# Altium schematic symbol library DPI_LVDS.SchLib: 28 symbols
Pins are listed as number, name and electrical type; pins without a type are passive.

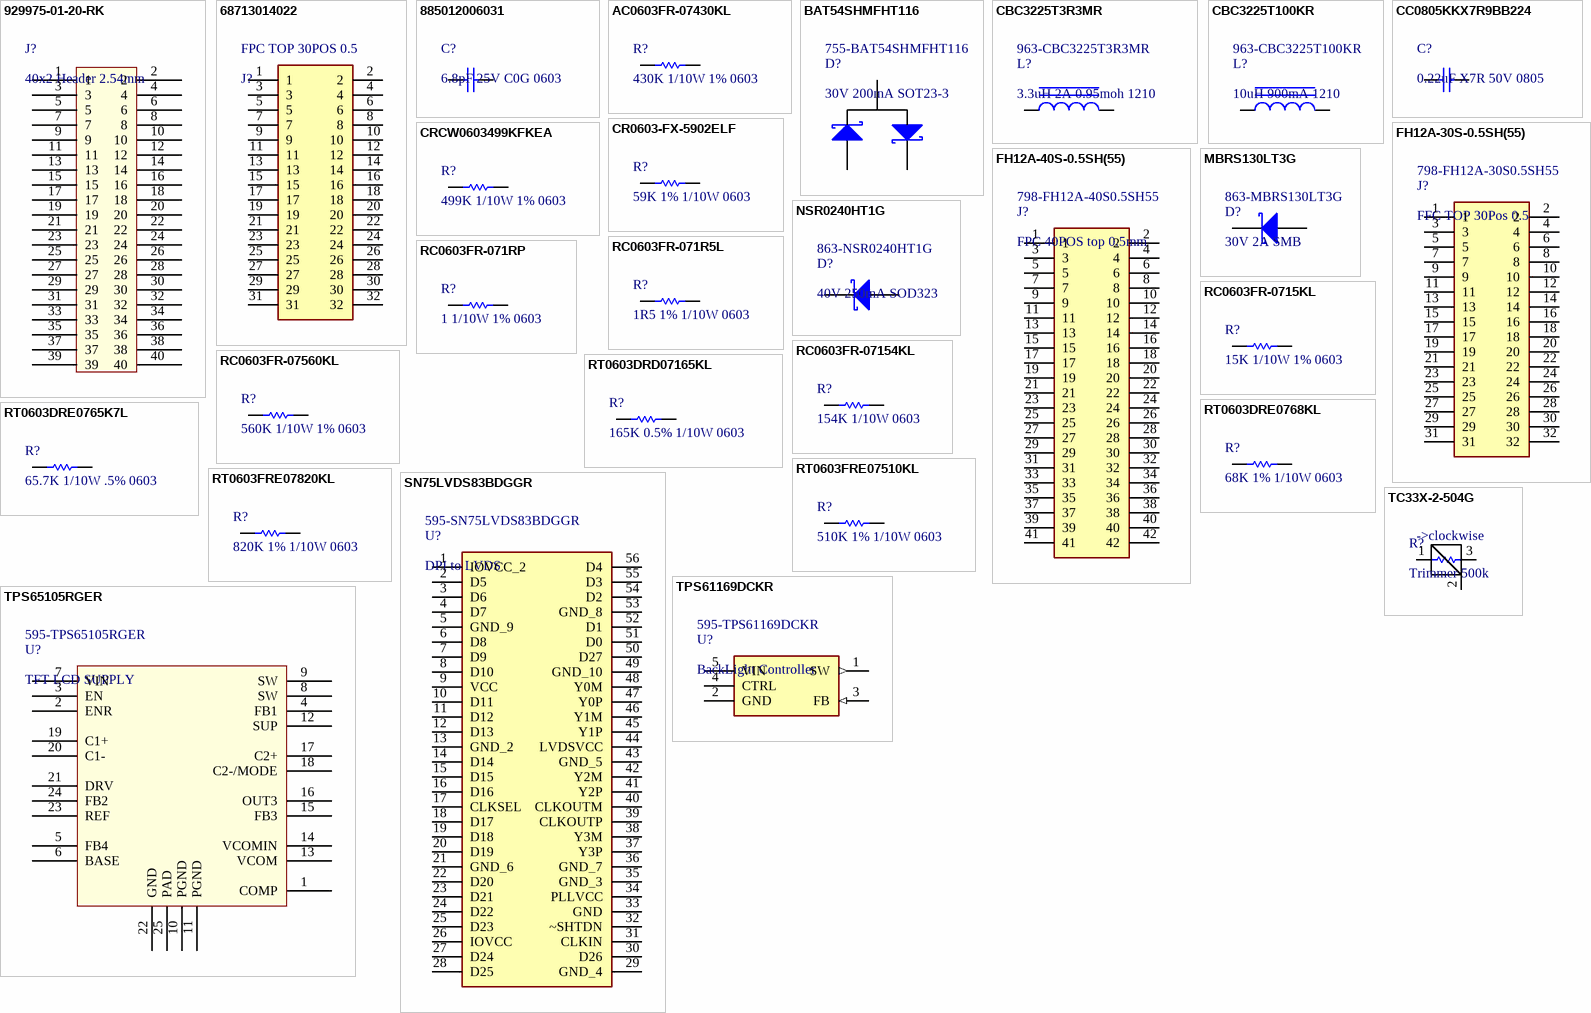
[diagram p0: symbols 929975-01-20-RK to TPS65105RGER]

## 929975-01-20-RK
designator J?, comment 40x2 Header 2.54mm
CONN RECEPT .100 DUAL STR 40POS; Manufacturer: 3M; Manufacturer Part Number: 929975-01-20-RK; Gender: Female; Number of Positions: 40; Connector Type: Receptacle; Current Rating: 1A; Pitch: 0.1inch; Contact Post Length: 3.18mm; Supplier 1: Mouser; RoHS: Yes; Stock 1: 240; Pricing 1: 1 = 2,70000, 10 = 2,59000, 50 = 2,27000, 100 = 2,16000, 1000 = 1,57000, 10000 = 1,46000 (USD); Mount: Through Hole; Contact Plating: Tin; Contact Material: Copper Alloy; Color: Black; Housing Color: Black; Housing Material: Polyester; Number of Rows: 2; Packaging: Bulk; Termination: Solder; Package Quantity: 1; Number of Contacts: 40; Contact Gender: Female; Length: 50.8mm; Height: 8.26mm; Row Spacing: 0.1inch; Width: 5.08mm; Lead Free: Lead Free; ComponentLink1URL: https://datasheet.ciiva.com/746/ts0815-746468.pdf?src-supplier=Digi-Key; ComponentLink1Description: https://datasheet.ciiva.com/746/ts0815-746468.pdf?src-supplier=Digi-Key; Supplier Part Number 1: 517-929975-01-20-RK
footprint Header 20x2 (2.54mm)
pins: 1, 2, 3, 4, 5, 6, 7, 8, 9, 10, 11, 12, 13, 14, 15, 16, 17, 18, 19, 20, 21, 22, 23, 24, 25, 26, 27, 28, 29, 30, 31, 32, 33, 34, 35, 36, 37, 38, 39, 40

## 68713014022
designator FPC TOP 30POS 0.5, comment J?
CONN FPC TOP 30POS 0.50MM R/A; Manufacturer: Wurth Electronics; Manufacturer Part Number: 68713014022; Actuator Material: Polymer; Current Rating: 500mA; Voltage Rating: 50V; Number of Positions: 30; Insulation Resistance: 100MR; Gender: Receptacle; Pitch: 0.5mm; RoHS: Yes; Mount: Surface Mount; Contact Plating: Tin; Contact Material: Bronze; Housing Material: Liquid Crystal Polymer; Min Operating Temperature: -25°C; Max Operating Temperature: 85°C; Number of Rows: 1; Packaging: Tape and Reel; Package Quantity: 1; Contact Location: Top; Termination: Solder; Number of Contacts: 30; Orientation: Straight; Length: 21.5mm; Width: 2.1mm; REACH SVHC: Unknown; Flammability Rating: UL94 V-0; ComponentLink1URL: https://datasheet.ciiva.com/25617/0900766b81113bff-25617822.pdf?src-supplier=RSComponents; ComponentLink1Description: https://datasheet.ciiva.com/25617/0900766b81113bff-25617822.pdf?src-supplier=RSComponents; ComponentLink2URL: https://datasheet.ciiva.com/670/6871xx14022-670559.pdf?src-supplier=Digi-Key; ComponentLink2Description: https://datasheet.ciiva.com/670/6871xx14022-670559.pdf?src-supplier=Digi-Key; ComponentLink3URL: https://datasheet.ciiva.com/670/6871xx14022-670557.pdf?src-supplier=Digi-Key; ComponentLink3Description: https://datasheet.ciiva.com/670/6871xx14022-670557.pdf?src-supplier=Digi-Key; ComponentLink4URL: https://datasheet.ciiva.com/670/6871xx14022-670558.pdf?src-supplier=Digi-Key; ComponentLink4Description: https://datasheet.ciiva.com/670/6871xx14022-670558.pdf?src-supplier=Digi-Key; ComponentLink5URL: https://datasheet.ciiva.com/14153/6871xx14022-eng-datasheet-14153918.pdf?src-supplier=Distrelec; ComponentLink5Description: https://datasheet.ciiva.com/14153/6871xx14022-eng-datasheet-14153918.pdf?src-supplier=Distrelec; ComponentLink6URL: https://datasheet.ciiva.com/29317/709128-da-01-en-smd-zif-stecker-90grad-kontakte-oben-30-29317879.pdf?src-supplier=Conrad; ComponentLink6Description: https://datasheet.ciiva.com/29317/709128-da-01-en-smd-zif-stecker-90grad-kontakte-oben-30-29317879.pdf?src-supplier=Conrad
footprint 68713014022
pins: 1, 2, 3, 4, 5, 6, 7, 8, 9, 10, 11, 12, 13, 14, 15, 16, 17, 18, 19, 20, 21, 22, 23, 24, 25, 26, 27, 28, 29, 30, 31, 32

## 885012006031
designator C?, comment 6.8pF 25V C0G 0603
CAP CER 6.8PF 25V C0G/NP0 0603; Manufacturer: Wurth Electronics; Manufacturer Part Number: 885012006031; Supplier 1: Mouser; RoHS: Yes; Stock 1: 13572; Pricing 1: 1 = 0,10000, 10 = 0,03200, 50 = 0,03200, 100 = 0,02900, 1000 = 0,02600, 10000 = 0,02200 (USD); Mount: Surface Mount; Case/Package: 0603; Case Code (Metric): 1608; Case Code (Imperial): 0603; Min Operating Temperature: -55°C; Max Operating Temperature: 125°C; Packaging: Tape and Reel; Capacitance: 6.8pF; Voltage Rating: 25V; Length: 0.063inch; Width: 0.031inch; Thickness: 0.034inch; ComponentLink1URL: http://www.farnell.com/datasheets/2546592.pdf?src-supplier=Farnell; ComponentLink1Description: http://www.farnell.com/datasheets/2546592.pdf?src-supplier=Farnell; ComponentLink2URL: https://katalog.we-online.de/pbs/datasheet/885012006031.pdf?src-supplier=Digi-Key; ComponentLink2Description: https://katalog.we-online.de/pbs/datasheet/885012006031.pdf?src-supplier=Digi-Key; Supplier Part Number 1: 710-885012006031
footprint C 0603/1608
pins: 1, 2

## AC0603FR-07430KL
designator R?, comment 430K 1/10W 1% 0603
Res Thick Film 0603 430K Ohm 1% 0.1W(1/10W) ±100ppm/C Epoxy Pad SMD Automotive T/R; Manufacturer: Yageo; Manufacturer Part Number: AC0603FR-07430KL; Power Rating: 100mW; Resistance: 430kR; Voltage Rating: 50V; Temperature Coefficient: 100ppm/°C; Working Voltage: 75V; Supplier 1: Mouser; RoHS: Yes; Stock 1: 55868; Pricing 1: 1 = 0,10000, 10 = 0,02200, 50 = 0,02200, 100 = 0,00800, 1000 = 0,00600, 10000 = 0,00400 (USD); Case/Package: 0603; Weight: 7.1E-05oz; Case Code (Imperial): 0603; Case Code (Metric): 1608; Min Operating Temperature: -55°C; Max Operating Temperature: 155°C; Packaging: Tape and Reel; Tolerance: 1%; Composition: Thick Film; Number of Terminations: 2; Termination: SMD/SMT; Max Power Dissipation: 100mW; Features: Moisture Resistant; Length: 0.063inch; Height: 0.022inch; Width: 0.031inch; Lead Free: Lead Free; ComponentLink1URL: https://datasheet.ciiva.com/12576/pyu-ac-51-rohs-l-2-12576361.pdf?src-supplier=Mouser; ComponentLink1Description: https://datasheet.ciiva.com/12576/pyu-ac-51-rohs-l-2-12576361.pdf?src-supplier=Mouser; Supplier Part Number 1: 603-AC0603FR-07430KL
footprint R 0603/1608
pins: 1, 2

## BAT54SHMFHT116
designator D?, comment 30V 200mA SOT23-3  Supplier Part Number 1: 755-BAT54SHMFHT116
AUTOMOTIVE SCHOTTKY BARRIER DIOD; Manufacturer: Rohm; Manufacturer Part Number: BAT54SHMFHT116; Supplier 1: Mouser; RoHS: No; Stock 1: 121849; Pricing 1: 1 = 0,16000, 10 = 0,14200, 50 = 0,14200, 100 = 0,05000, 1000 = 0,03400, 10000 = 0,02600 (USD); ComponentLink1URL: http://www.farnell.com/datasheets/2190045.pdf?src-supplier=Farnell; ComponentLink1Description: http://www.farnell.com/datasheets/2190045.pdf?src-supplier=Farnell; ComponentLink2URL: http://rohmfs.rohm.com/en/techdata_basic/diode/taping/Taping_SSD3M_T116-e.pdf?src-supplier=Digi-Key; ComponentLink2Description: http://rohmfs.rohm.com/en/techdata_basic/diode/taping/Taping_SSD3M_T116-e.pdf?src-supplier=Digi-Key; ComponentLink3URL: http://rohmfs.rohm.com/en/products/databook/datasheet/discrete/diode/schottky_barrier/bat54shmfh-e.pdf?src-supplier=Digi-Key; ComponentLink3Description: http://rohmfs.rohm.com/en/products/databook/datasheet/discrete/diode/schottky_barrier/bat54shmfh-e.pdf?src-supplier=Digi-Key
footprint SOT-23-3 (SOT23, 3-Leads, Body 2.92x1.3mm, Pitch 0.95mm)
pins: 1 A, 2 K, 3 A/K

## CBC3225T3R3MR
designator L?, comment 3.3uH 2A 0.95moh 1210  Supplier Part Number 1: 963-CBC3225T3R3MR
FIXED IND 3.3UH 1.04A 123.5 MOHM; Manufacturer: Taiyo Yuden; Manufacturer Part Number: CBC3225T3R3MR; Core Material: Ferrite; Shielding: Unshielded; Tolerance: 20%; DC Resistance (DCR): 123.5mR; Self Resonant Frequency: 160MHz; Test Frequency: 100kHz; Supplier 1: Mouser; RoHS: Yes; Stock 1: 2798; Pricing 1: 1 = 0,32000, 10 = 0,25600, 50 = 0,25600, 100 = 0,19200, 1000 = 0,10900, 10000 = 0,09400 (USD); Mount: Surface Mount; Case/Package: 1210; Weight: 0.000564oz; Case Code (Metric): 3225; Case Code (Imperial): 1210; Min Operating Temperature: -40°C; Max Operating Temperature: 105°C; Inductance: 3.3uH; Packaging: Tape and Reel; Max DC Current: 2A; Package Quantity: 1000; Current Rating: 1.04A; Saturation Current: 2A; Termination: SMD/SMT; Composition: Wirewound; Length: 3.2mm; Height: 2.5mm; Width: 0.098inch; Depth: 2.7mm; Radiation Hardening: No; Lead Free: Lead Free; Halogen Free: Halogen Free; ComponentLink1URL: https://datasheet.ciiva.com/8503/cbc3225t3r3mr-ss-8503651.pdf?src-supplier=Avnet; ComponentLink1Description: https://datasheet.ciiva.com/8503/cbc3225t3r3mr-ss-8503651.pdf?src-supplier=Avnet; ComponentLink2URL: https://datasheet.ciiva.com/25607/0900766b810b3b0a-25607789.pdf?src-supplier=RSComponents; ComponentLink2Description: https://datasheet.ciiva.com/25607/0900766b810b3b0a-25607789.pdf?src-supplier=RSComponents
footprint L 1210/3225
pins: 1, 2

## CBC3225T100KR
designator L?, comment 10uH 900mA 1210  Supplier Part Number 1: 963-CBC3225T100KR
Fixed Inductors 1210 10uH 172.9mOhms +/-10% 900mA HiCur; Manufacturer: Taiyo Yuden; Manufacturer Part Number: CBC3225T100KR; Core Material: Ferrite; Self Resonant Frequency: 23MHz; Tolerance: 10%; DC Resistance (DCR): 133mR; Shielding: Unshielded; Test Frequency: 100kHz; Supplier 1: Mouser; RoHS: Yes; Stock 1: 98328; Pricing 1: 1 = 0,25000, 10 = 0,22100, 50 = 0,22100, 100 = 0,15200, 1000 = 0,10200, 10000 = 0,07700 (USD); Mount: Surface Mount; Case/Package: 1210; Case Code (Metric): 3225; Case Code (Imperial): 1210; Min Operating Temperature: -40°C; Max Operating Temperature: 105°C; Inductance: 10uH; Packaging: Tape and Reel; Max DC Current: 900mA; Package Quantity: 1000; Current Rating: 900mA; Saturation Current: 900mA; Termination: SMD/SMT; Composition: Wirewound; Inductance Tolerance: 10%; DC Current: 900mA; Military Standard: Not; Length: 0.126inch; Height: 2.5mm; Width: 2.5mm; Height - Seated (Max): 0.106inch; Depth: 2.7mm; Radiation Hardening: No; Lead Free: Lead Free; REACH SVHC: Unknown; Halogen Free: Halogen Free; ComponentLink1URL: https://datasheet.ciiva.com/26871/getdatasheetpartid-637483-26871170.pdf?src-supplier=Verical; ComponentLink1Description: https://datasheet.ciiva.com/26871/getdatasheetpartid-637483-26871170.pdf?src-supplier=Verical; ComponentLink2URL: https://datasheet.ciiva.com/6701/cbc3225t100kr-ss-6701092.pdf?src-supplier=Digi-Key; ComponentLink2Description: https://datasheet.ciiva.com/6701/cbc3225t100kr-ss-6701092.pdf?src-supplier=Digi-Key
footprint L 1210/3225
pins: 1, 2

## CC0805KKX7R9BB224
designator C?, comment 0.22uF X7R 50V 0805
Multilayer Ceramic Capacitors MLCC - SMD/SMT 220nF 50V X7R 10%; Manufacturer: Yageo; Manufacturer Part Number: CC0805KKX7R9BB224; Supplier 1: Mouser; RoHS: Yes; Stock 1: 44886; Pricing 1: 1 = 0,20000, 10 = 0,10300, 50 = 0,10300, 100 = 0,05200, 1000 = 0,04400, 10000 = 0,03100 (USD); Mount: Surface Mount; Case/Package: 0805; Weight: 0.000194oz; Case Code (Imperial): 0805; Case Code (Metric): 2012; Min Operating Temperature: -55°C; Max Operating Temperature: 125°C; Capacitance: 220nF; Tolerance: 10%; Dielectric: X7R; Packaging: Tape and Reel; Voltage Rating: 50V; Voltage Rating (DC): 50V; Termination: SMD/SMT; Composition: Ceramic; Length: 2mm; Height: 1.25mm; Width: 0.049inch; Thickness: 0.057inch; Depth: 1.25mm; Radiation Hardening: No; Lead Free: Lead Free; Halogen Free: Halogen Free; ComponentLink1URL: https://datasheet.ciiva.com/26862/getdatasheetpartid-403679-26862968.pdf?src-supplier=Verical; ComponentLink1Description: https://datasheet.ciiva.com/26862/getdatasheetpartid-403679-26862968.pdf?src-supplier=Verical; ComponentLink2URL: https://datasheet.ciiva.com/15375/yageo-486313-494411-15375807.pdf?src-supplier=Mouser; ComponentLink2Description: https://datasheet.ciiva.com/15375/yageo-486313-494411-15375807.pdf?src-supplier=Mouser; Supplier Part Number 1: 603-CC805KKX7R9BB224
footprint C 0805/2012
pins: 1, 2

## CR0603-FX-5902ELF
designator R?, comment 59K 1% 1/10W 0603
Res Thick Film 0603 59K Ohm 1% 1/10W ±100ppm/C Molded SMD SMD Paper Tape on Plastic Reel; Manufacturer 1: Bourns; Manufacturer Part Number 1: CR0603-FX-5902ELF; Resistance: 59kR; Temperature Coefficient: 100ppm/°C; Power Rating: 100mW; Voltage Rating: 50V; Supplier 1: Mouser; Stock 1: 16309; Pricing 1: 1=0,10000, 10=0,03100, 50=0,03100, 100=0,01700, 1000=0,01000, 10000=0,00800 (USD); RoHS: Yes; Mount: Surface Mount; Case/Package: 0603; Contact Plating: Tin; Case Code (Imperial): 0603; Case Code (Metric): 1608; Min Operating Temperature: -55°C; Max Operating Temperature: 155°C; Tolerance: 1%; Composition: Thick Film; Packaging: Tape and Reel; Package Quantity: 5000; Termination: SMD/SMT; Number of Terminations: 2; Military Standard: Not; Max Power Dissipation: 100mW; Features: Moisture Resistant; Length: 1.6mm; Height: 0.022inch; Width: 0.8mm; Depth: 0.8mm; Thickness: 457um; Radiation Hardening: No; ComponentLink1URL: https://datasheet.ciiva.com/5570/chpreztr-5570920.pdf?src-supplier=Mouser; ComponentLink1Description: https://datasheet.ciiva.com/5570/chpreztr-5570920.pdf?src-supplier=Mouser; ComponentLink2URL: https://datasheet.ciiva.com/14986/chpreztr-14986428.pdf?src-supplier=Digi-Key; ComponentLink2Description: https://datasheet.ciiva.com/14986/chpreztr-14986428.pdf?src-supplier=Digi-Key; ComponentLink3URL: https://datasheet.ciiva.com/16940/chpreztr-16940063.pdf?src-supplier=Avnet+Europe; ComponentLink3Description: https://datasheet.ciiva.com/16940/chpreztr-16940063.pdf?src-supplier=Avnet+Europe; Supplier Part Number 1: 652-CR0603FX-5902ELF
footprint R 0603/1608
pins: 1, 2

## CRCW0603499KFKEA
designator R?, comment 499K 1/10W 1% 0603
RES SMD 499K OHM 1% 1/10W 0603; Manufacturer: Vishay; Manufacturer Part Number: CRCW0603499KFKEA; Resistance: 499kR; Power Rating: 100mW; Temperature Coefficient: 100ppm/°C; Voltage Rating: 75V; Supplier 1: Mouser; RoHS: Yes; Stock 1: 2400; Pricing 1: 1 = 0,10000, 10 = 0,04000, 50 = 0,04000, 100 = 0,02800, 1000 = 0,00600, 10000 = 0,00400 (USD); Mount: Surface Mount; Case/Package: 0603; Number of Pins: 2; Weight: 7.1E-05oz; Contact Plating: Tin; Case Code (Imperial): 0603; Case Code (Metric): 1608; Min Operating Temperature: -55°C; Max Operating Temperature: 155°C; Tolerance: 1%; Termination: SMD/SMT; Composition: Thick Film; Packaging: Tape and Reel; Package Quantity: 10; Number of Terminations: 2; Military Standard: Not; Max Power Dissipation: 100mW; Voltage Rating (DC): 75V; Working Voltage: 75V; Features: Automotive AEC-Q200; Length: 1.55mm; Height: 0.45mm; Width: 0.85mm; Depth: 0.85mm; Radiation Hardening: No; Lead Free: Lead Free; REACH SVHC: Unknown; ComponentLink1URL: https://datasheet.ciiva.com/11811/0900766b80d98afc-11811204.pdf?src-supplier=RSComponents; ComponentLink1Description: https://datasheet.ciiva.com/11811/0900766b80d98afc-11811204.pdf?src-supplier=RSComponents; ComponentLink2URL: https://datasheet.ciiva.com/7168/1635184-7168517.pdf?src-supplier=Newark; ComponentLink2Description: https://datasheet.ciiva.com/7168/1635184-7168517.pdf?src-supplier=Newark; ComponentLink3URL: https://datasheet.ciiva.com/2465/dcrcwe3-2465610.pdf?src-supplier=Digi-Key; ComponentLink3Description: https://datasheet.ciiva.com/2465/dcrcwe3-2465610.pdf?src-supplier=Digi-Key; ComponentLink4URL: https://datasheet.ciiva.com/7792/125364-7792298.pdf?src-supplier=Element14; ComponentLink4Description: https://datasheet.ciiva.com/7792/125364-7792298.pdf?src-supplier=Element14; ComponentLink5URL: https://datasheet.ciiva.com/16200/dcrcwe3-16200202.pdf?src-supplier=Future+Electronics; ComponentLink5Description: https://datasheet.ciiva.com/16200/dcrcwe3-16200202.pdf?src-supplier=Future+Electronics; ComponentLink6URL: https://datasheet.ciiva.com/16784/70201119-16784775.pdf?src-supplier=Allied+Electronics; ComponentLink6Description: https://datasheet.ciiva.com/16784/70201119-16784775.pdf?src-supplier=Allied+Electronics; ComponentLink7URL: https://datasheet.ciiva.com/5551/dcrcwe3-109170-5551960.pdf?src-supplier=Mouser; ComponentLink7Description: https://datasheet.ciiva.com/5551/dcrcwe3-109170-5551960.pdf?src-supplier=Mouser; ComponentLink8URL: https://datasheet.ciiva.com/2465/dcrcwe3-2465609.pdf?src-supplier=Digi-Key; ComponentLink8Description: https://datasheet.ciiva.com/2465/dcrcwe3-2465609.pdf?src-supplier=Digi-Key; ComponentLink9URL: https://datasheet.ciiva.com/2465/dcrcwe3-2465611.pdf?src-supplier=Digi-Key; ComponentLink9Description: https://datasheet.ciiva.com/2465/dcrcwe3-2465611.pdf?src-supplier=Digi-Key; ComponentLink10URL: https://datasheet.ciiva.com/3257/dcrcwe3-3257647.pdf?src-supplier=Avnet; ComponentLink10Description: https://datasheet.ciiva.com/3257/dcrcwe3-3257647.pdf?src-supplier=Avnet; Supplier Part Number 1: 71-CRCW0603-499K-E3
footprint R 0603/1608
pins: 1, 2

## FH12A-30S-0.5SH(55)
designator J?, comment FFC TOP 30Pos 0.5  Supplier Part Number 1: 798-FH12A-30S0.5SH55
CONN FFC TOP 30POS 0.50MM R/A; Manufacturer: Hirose; Manufacturer Part Number: FH12A-30S-0.5SH(55); Actuator Material: Polyphenylene; Current Rating: 500mA; Voltage Rating: 50V; Gender: Female; Contact Resistance: 50mR; Mating Cycles: 20; Max Current Rating: 400mA; Number of Positions: 30; Insulation Resistance: 500MR; Wire/Cable Type: Straight; Pitch: 0.5mm; Supplier 1: Mouser; RoHS: Yes; Stock 1: 1995; Pricing 1: 1 = 2,20000, 10 = 2,00000, 50 = 1,80000, 100 = 1,71000, 1000 = 1,23000, 10000 = 0,96300 (USD); Mount: Surface Mount; Contact Material: Bronze; Contact Plating: Gold; Color: Beige; Material: Polyamide; Housing Color: Beige; Housing Material: Polyamide; Min Operating Temperature: -40°C; Max Operating Temperature: 70°C; Package Quantity: 1; Packaging: Tape and Reel; Number of Rows: 1; Voltage Rating (AC): 50V; Termination: Solder; Contact Location: Top; Number of Contacts: 30; Max Voltage Rating (AC): 50V; Orientation: Right Angle; Length: 19.5mm; Lead Pitch: 0.5mm; Width: 19.1mm; Depth: 6.2mm; Radiation Hardening: No; REACH SVHC: No SVHC; Lead Free: Lead Free; Flammability Rating: UL94 V-0; ComponentLink1URL: https://datasheet.ciiva.com/11745/0900766b80eb81d1-11745008.pdf?src-supplier=RSComponents; ComponentLink1Description: https://datasheet.ciiva.com/11745/0900766b80eb81d1-11745008.pdf?src-supplier=RSComponents; ComponentLink2URL: https://datasheet.ciiva.com/15176/getdatasheetpartid-447851-15176862.pdf?src-supplier=Verical; ComponentLink2Description: https://datasheet.ciiva.com/15176/getdatasheetpartid-447851-15176862.pdf?src-supplier=Verical; ComponentLink3URL: https://datasheet.ciiva.com/22697/58809-22697097.pdf?src-supplier=Element14; ComponentLink3Description: https://datasheet.ciiva.com/22697/58809-22697097.pdf?src-supplier=Element14; ComponentLink4URL: https://datasheet.ciiva.com/22630/58809-22630397.pdf?src-supplier=Farnell; ComponentLink4Description: https://datasheet.ciiva.com/22630/58809-22630397.pdf?src-supplier=Farnell
footprint FH12A-30S0.5SH55
pins: 1, 2, 3, 4, 5, 6, 7, 8, 9, 10, 11, 12, 13, 14, 15, 16, 17, 18, 19, 20, 21, 22, 23, 24, 25, 26, 27, 28, 29, 30, 31, 32

## FH12A-40S-0.5SH(55)
designator J?, comment FPC 40POS top 0.5mm  Supplier Part Number 1: 798-FH12A-40S0.5SH55
CONN FFC TOP 40POS 0.50MM R/A; Manufacturer: Hirose; Manufacturer Part Number: FH12A-40S-0.5SH(55); Actuator Material: Polyphenylene; Number of Contacts: 40; Voltage Rating: 50V; Current Rating: 500mA; Wire/Cable Type: Straight; Gender: Female; Contact Resistance: 50mR; Max Current Rating: 400mA; Insulation Resistance: 500MR; Mating Cycles: 20; Supplier 1: Mouser; RoHS: Yes; Stock 1: 13223; Pricing 1: 1 = 2,56000, 10 = 2,15000, 50 = 2,15000, 100 = 2,05000, 1000 = 1,55000, 10000 = 1,24000 (USD); Mount: Surface Mount; Contact Material: Bronze; Contact Plating: Gold; Housing Material: Polyamide; Housing Color: Beige; Material: Polyamide; Color: Beige; Min Operating Temperature: -40°C; Max Operating Temperature: 70°C; Termination: Solder; Packaging: Tape and Reel; Number of Positions: 40; Package Quantity: 2000; Number of Rows: 1; Orientation: Right Angle; Contact Location: Top; Max Voltage Rating (AC): 50V; Voltage Rating (AC): 50V; Length: 24.5mm; Pitch: 0.5mm; Depth: 6.2mm; Width: 24.1mm; Lead Pitch: 0.5mm; Radiation Hardening: No; Lead Free: Lead Free; Flammability Rating: UL94 V-0; REACH SVHC: No SVHC; ComponentLink1URL: https://datasheet.ciiva.com/14667/0900766b80806912-14667338.pdf?src-supplier=RSComponents; ComponentLink1Description: https://datasheet.ciiva.com/14667/0900766b80806912-14667338.pdf?src-supplier=RSComponents; ComponentLink2URL: https://datasheet.ciiva.com/11745/0900766b80d985fc-11745193.pdf?src-supplier=RSComponents; ComponentLink2Description: https://datasheet.ciiva.com/11745/0900766b80d985fc-11745193.pdf?src-supplier=RSComponents; ComponentLink3URL: https://datasheet.ciiva.com/15176/getdatasheetpartid-432540-15176844.pdf?src-supplier=Verical; ComponentLink3Description: https://datasheet.ciiva.com/15176/getdatasheetpartid-432540-15176844.pdf?src-supplier=Verical
footprint FH12A40S05SH
pins: 1, 2, 3, 4, 5, 6, 7, 8, 9, 10, 11, 12, 13, 14, 15, 16, 17, 18, 19, 20, 21, 22, 23, 24, 25, 26, 27, 28, 29, 30, 31, 32, 33, 34, 35, 36, 37, 38, 39, 40, 41, 42

## MBRS130LT3G
designator D?, comment 30V 2A SMB  Supplier Part Number 1: 863-MBRS130LT3G
DIODE SCHOTTKY 30V 2A SMB; Manufacturer: ON Semiconductor; Manufacturer Part Number: MBRS130LT3G; Max Surge Current: 40A; Forward Voltage: 395mV; Peak Reverse Current: 1mA; Element Configuration: Single; Polarity: Standard; Current Rating: 1A; Supplier 1: Mouser; RoHS: Yes; Stock 1: 81498; Pricing 1: 1 = 0,37000, 10 = 0,25800, 50 = 0,25800, 100 = 0,11900, 1000 = 0,09100, 10000 = 0,07100 (USD); Case/Package: SMB; Number of Pins: 2; Contact Plating: Tin; Min Operating Temperature: -65°C; Max Operating Temperature: 125°C; Forward Current: 2A; Package Quantity: 1; Packaging: Tape and Reel; Average Rectified Current: 2A; Max Reverse Leakage Current: 1mA; Max Repetitive Reverse Voltage (Vrrm): 30V; Max Forward Surge Current (Ifsm): 40A; Termination: SMD/SMT; Peak Non-Repetitive Surge Current: 40A; Voltage Rating (DC): 30V; Output Current: 1A; Max Reverse Voltage (DC): 30V; Length: 0.181inch; Height: 0.09inch; Width: 0.156inch; Radiation Hardening: No; REACH SVHC: No SVHC; Lead Free: Lead Free; Halogen Free: Halogen Free; ComponentLink1URL: https://datasheet.ciiva.com/5763/mbrs130lt3-d-5763008.pdf?src-supplier=Farnell; ComponentLink1Description: https://datasheet.ciiva.com/5763/mbrs130lt3-d-5763008.pdf?src-supplier=Farnell; ComponentLink2URL: https://datasheet.ciiva.com/915/mbrs130lt3-d-915698.pdf?src-supplier=Digi-Key; ComponentLink2Description: https://datasheet.ciiva.com/915/mbrs130lt3-d-915698.pdf?src-supplier=Digi-Key; ComponentLink3URL: https://datasheet.ciiva.com/27050/865899-27050530.pdf?src-supplier=Jameco; ComponentLink3Description: https://datasheet.ciiva.com/27050/865899-27050530.pdf?src-supplier=Jameco; ComponentLink4URL: https://datasheet.ciiva.com/22659/1708275-22659062.pdf?src-supplier=Element14; ComponentLink4Description: https://datasheet.ciiva.com/22659/1708275-22659062.pdf?src-supplier=Element14; ComponentLink5URL: https://datasheet.ciiva.com/915/mbrs130lt3-d-915699.pdf?src-supplier=Digi-Key; ComponentLink5Description: https://datasheet.ciiva.com/915/mbrs130lt3-d-915699.pdf?src-supplier=Digi-Key; ComponentLink6URL: https://datasheet.ciiva.com/915/mbrs130lt3-d-915700.pdf?src-supplier=Digi-Key; ComponentLink6Description: https://datasheet.ciiva.com/915/mbrs130lt3-d-915700.pdf?src-supplier=Digi-Key; ComponentLink7URL: https://datasheet.ciiva.com/7962/mbrs130lt3-d-7962810.pdf?src-supplier=Element14; ComponentLink7Description: https://datasheet.ciiva.com/7962/mbrs130lt3-d-7962810.pdf?src-supplier=Element14; ComponentLink8URL: https://datasheet.ciiva.com/25950/mbrs130lt3-d-25950250.pdf?src-supplier=Avnet+Europe; ComponentLink8Description: https://datasheet.ciiva.com/25950/mbrs130lt3-d-25950250.pdf?src-supplier=Avnet+Europe; ComponentLink9URL: https://datasheet.ciiva.com/16363/mbrs130lt3-d-16363355.pdf?src-supplier=Future+Electronics; ComponentLink9Description: https://datasheet.ciiva.com/16363/mbrs130lt3-d-16363355.pdf?src-supplier=Future+Electronics
footprint SOD DO-214AA-2 (SMB)
pins: 1 K, 2 A

## NSR0240HT1G
designator D?, comment 40V 250mA SOD323  Supplier Part Number 1: 863-NSR0240HT1G
DIODE SCHOTTKY 40V 250MA SOD323; Manufacturer: ON Semiconductor; Manufacturer Part Number: NSR0240HT1G; Max Surge Current: 1A; Recovery Time: 3ns; Peak Reverse Current: 10uA; Forward Voltage: 710mV; Power Dissipation: 270mW; Element Configuration: Single; Supplier 1: Mouser; RoHS: Yes; Stock 1: 30582; Pricing 1: 1 = 0,23000, 10 = 0,15400, 50 = 0,15400, 100 = 0,06500, 1000 = 0,04400, 10000 = 0,03000 (USD); Case/Package: SOD-323-2; Number of Pins: 2; Contact Plating: Tin; Min Operating Temperature: -55°C; Max Operating Temperature: 150°C; Package Quantity: 1; Forward Current: 250mA; Packaging: Tape and Reel; Max Reverse Leakage Current: 10uA; Average Rectified Current: 250mA; Reverse Recovery Time: 3ns; Max Repetitive Reverse Voltage (Vrrm): 40V; Peak Non-Repetitive Surge Current: 1A; Max Forward Surge Current (Ifsm): 1A; Max Reverse Voltage (DC): 40V; Length: 1.8mm; Height: 1mm; Width: 1.35mm; Radiation Hardening: No; REACH SVHC: No SVHC; Lead Free: Lead Free; ComponentLink1URL: https://datasheet.ciiva.com/4714/nsr0240h-d-113658-4714368.pdf?src-supplier=Mouser; ComponentLink1Description: https://datasheet.ciiva.com/4714/nsr0240h-d-113658-4714368.pdf?src-supplier=Mouser; ComponentLink2URL: https://datasheet.ciiva.com/8293/nsr0240h-d-8293840.pdf?src-supplier=Avnet; ComponentLink2Description: https://datasheet.ciiva.com/8293/nsr0240h-d-8293840.pdf?src-supplier=Avnet; ComponentLink3URL: https://datasheet.ciiva.com/25949/nsr0240h-d-25949637.pdf?src-supplier=Avnet+Europe; ComponentLink3Description: https://datasheet.ciiva.com/25949/nsr0240h-d-25949637.pdf?src-supplier=Avnet+Europe; ComponentLink4URL: https://datasheet.ciiva.com/915/nsr0240h-d-915416.pdf?src-supplier=Digi-Key; ComponentLink4Description: https://datasheet.ciiva.com/915/nsr0240h-d-915416.pdf?src-supplier=Digi-Key; ComponentLink5URL: https://datasheet.ciiva.com/915/nsr0240h-d-915417.pdf?src-supplier=Digi-Key; ComponentLink5Description: https://datasheet.ciiva.com/915/nsr0240h-d-915417.pdf?src-supplier=Digi-Key; ComponentLink6URL: https://datasheet.ciiva.com/16396/nsr0240h-d-16396521.pdf?src-supplier=Future+Electronics; ComponentLink6Description: https://datasheet.ciiva.com/16396/nsr0240h-d-16396521.pdf?src-supplier=Future+Electronics; ComponentLink7URL: https://datasheet.ciiva.com/915/nsr0240h-d-915418.pdf?src-supplier=Digi-Key; ComponentLink7Description: https://datasheet.ciiva.com/915/nsr0240h-d-915418.pdf?src-supplier=Digi-Key; ComponentLink8URL: https://datasheet.ciiva.com/7963/nsr0240h-d-7963165.pdf?src-supplier=Element14; ComponentLink8Description: https://datasheet.ciiva.com/7963/nsr0240h-d-7963165.pdf?src-supplier=Element14
footprint SOD-323
pins: 1 K, 2 A

## RC0603FR-071R5L
designator R?, comment 1R5 1% 1/10W 0603
RESISTOR, 0603 1R5 1%, FULL REEL; Manufacturer 1: Yageo; Manufacturer Part Number 1: RC0603FR-071R5L; Resistance: 1.5R; Power Rating: 100mW; Voltage Rating: 50V; Temperature Coefficient: 200ppm/°C; Supplier 1: Mouser; Stock 1: 50492; Pricing 1: 1=0,15000, 10=0,03600, 50=0,03600, 100=0,01200, 1000=0,00900, 5000=0,00600, 10000=0,00600, 25000=0,00500, 50000=0,00400 (USD); RoHS: Yes; Case/Package: 0603; Number of Pins: 2; Case Code (Imperial): 0603; Case Code (Metric): 1608; Min Operating Temperature: -55°C; Max Operating Temperature: 155°C; Tolerance: 1%; Packaging: Tape and Reel; Voltage Rating (DC): 50V; Composition: Thick Film; Number of Terminations: 2; Termination: SMD/SMT; Max Power Dissipation: 100mW; Features: Moisture Resistant; Length: 0.063inch; Height: 0.022inch; Width: 0.031inch; Depth: 0.8mm; REACH SVHC: No SVHC; Lead Free: Lead Free; ComponentLink1URL: https://datasheet.ciiva.com/11809/0900766b80f96399-11809241.pdf?src-supplier=RSComponents; ComponentLink1Description: https://datasheet.ciiva.com/11809/0900766b80f96399-11809241.pdf?src-supplier=RSComponents; ComponentLink2URL: https://datasheet.ciiva.com/7746/443971-7746293.pdf?src-supplier=Element14; ComponentLink2Description: https://datasheet.ciiva.com/7746/443971-7746293.pdf?src-supplier=Element14; Supplier Part Number 1: 603-RC0603FR-071R5L
footprint R 0603/1608
pins: 1, 2

## RC0603FR-071RP
designator R?, comment 1 1/10W 1% 0603
RES SMD 1 OHM 1% 1/10W 0603; Manufacturer: Yageo; Manufacturer Part Number: RC0603FR-071RP; Resistance: 1R; Max Power Dissipation: 100mW; Temperature Coefficient: 300ppm/°C; Supplier 1: Mouser; RoHS: Yes; Stock 1: 48548; Pricing 1: 1 = 0,10000, 10 = 0,05000, 50 = 0,05000, 100 = 0,01800, 1000 = 0,01300, 10000 = 0,00800 (USD); Case/Package: 0603; Case Code (Metric): 1608; Case Code (Imperial): 0603; Min Operating Temperature: -55°C; Max Operating Temperature: 155°C; Packaging: Tape and Reel; Composition: Thick Film; Number of Terminations: 2; Tolerance: 1%; Features: Moisture Resistant; Length: 0.063inch; Height: 0.022inch; Width: 0.031inch; ComponentLink1URL: http://www.yageo.com.tw/exep/pages/download/literatures/PYu-R_INT-thick_7.pdf?src-supplier=Digi-Key; ComponentLink1Description: http://www.yageo.com.tw/exep/pages/download/literatures/PYu-R_INT-thick_7.pdf?src-supplier=Digi-Key; ComponentLink2URL: http://www.yageo.com/NewPortal/yageodocoutput?fileName=/pdf/R-Chip/PYu-RC_51_RoHS_P_0.pdf&src-supplier=Digi-Key; ComponentLink2Description: http://www.yageo.com/NewPortal/yageodocoutput?fileName=/pdf/R-Chip/PYu-RC_51_RoHS_P_0.pdf&src-supplier=Digi-Key; Supplier Part Number 1: 603-RC0603FR-071RP
footprint R 0603/1608
pins: 1, 2

## RC0603FR-0715KL
designator R?, comment 15K 1/10W 1% 0603
RES SMD 15K OHM 1% 1/10W 0603; Manufacturer: Yageo; Manufacturer Part Number: RC0603FR-0715KL; Resistance: 15kR; Temperature Coefficient: 100ppm/°C; Voltage Rating (DC): 50V; Power Rating: 100mW; Supplier 1: Mouser; RoHS: Yes; Stock 1: 2245607; Pricing 1: 1 = 0,10000, 10 = 0,01800, 50 = 0,01800, 100 = 0,00600, 1000 = 0,00500, 10000 = 0,00300 (USD); Case/Package: 0603; Number of Pins: 2; Case Code (Metric): 1608; Case Code (Imperial): 0603; Min Operating Temperature: -55°C; Max Operating Temperature: 155°C; Tolerance: 1%; Composition: Thick Film; Packaging: Tape and Reel; Package Quantity: 1; Voltage Rating: 50V; Number of Terminations: 2; Termination: SMD/SMT; Military Standard: Not; Max Power Dissipation: 100mW; Features: Moisture Resistant; Length: 1.6mm; Height: 0.022inch; Width: 0.031inch; Depth: 0.8mm; Lead Free: Lead Free; REACH SVHC: Unknown; ComponentLink1URL: https://datasheet.ciiva.com/2453/pyu-r-int-thick-7-2453907.pdf?src-supplier=Digi-Key; ComponentLink1Description: https://datasheet.ciiva.com/2453/pyu-r-int-thick-7-2453907.pdf?src-supplier=Digi-Key; ComponentLink2URL: https://datasheet.ciiva.com/2453/pyu-r-int-thick-7-2453908.pdf?src-supplier=Digi-Key; ComponentLink2Description: https://datasheet.ciiva.com/2453/pyu-r-int-thick-7-2453908.pdf?src-supplier=Digi-Key; ComponentLink3URL: https://datasheet.ciiva.com/2453/pyu-r-int-thick-7-2453909.pdf?src-supplier=Digi-Key; ComponentLink3Description: https://datasheet.ciiva.com/2453/pyu-r-int-thick-7-2453909.pdf?src-supplier=Digi-Key; ComponentLink4URL: https://datasheet.ciiva.com/15189/getdatasheetpartid-327895-15189613.pdf?src-supplier=Verical; ComponentLink4Description: https://datasheet.ciiva.com/15189/getdatasheetpartid-327895-15189613.pdf?src-supplier=Verical; Supplier Part Number 1: 603-RC0603FR-0715KL
footprint R 0603/1608
pins: 1, 2

## RC0603FR-07154KL
designator R?, comment 154K 1/10W 0603
RES SMD 154K OHM 1% 1/10W 0603; Manufacturer: Yageo; Manufacturer Part Number: RC0603FR-07154KL; Resistance: 154kR; Power Rating: 100mW; Voltage Rating: 50V; Temperature Coefficient: 100ppm/°C; Supplier 1: Mouser; RoHS: Yes; Stock 1: 67533; Pricing 1: 1 = 0,10000, 10 = 0,01800, 50 = 0,01800, 100 = 0,00600, 1000 = 0,00500, 10000 = 0,00300 (USD); Mount: Surface Mount; Case/Package: 0603; Case Code (Metric): 1608; Case Code (Imperial): 0603; Min Operating Temperature: -55°C; Max Operating Temperature: 155°C; Package Quantity: 1; Tolerance: 1%; Packaging: Tape and Reel; Composition: Thick Film; Number of Terminations: 2; Termination: SMD/SMT; Military Standard: Not; Max Power Dissipation: 100mW; Voltage Rating (DC): 50V; Features: Moisture Resistant; Length: 1.6mm; Height: 0.022inch; Width: 0.031inch; Depth: 0.8mm; Lead Free: Lead Free; ComponentLink1URL: https://datasheet.ciiva.com/11808/0900766b80f96399-11808415.pdf?src-supplier=RSComponents; ComponentLink1Description: https://datasheet.ciiva.com/11808/0900766b80f96399-11808415.pdf?src-supplier=RSComponents; ComponentLink2URL: https://datasheet.ciiva.com/2454/pyu-r-int-thick-7-2454579.pdf?src-supplier=Digi-Key; ComponentLink2Description: https://datasheet.ciiva.com/2454/pyu-r-int-thick-7-2454579.pdf?src-supplier=Digi-Key; ComponentLink3URL: https://datasheet.ciiva.com/2454/pyu-r-int-thick-7-2454580.pdf?src-supplier=Digi-Key; ComponentLink3Description: https://datasheet.ciiva.com/2454/pyu-r-int-thick-7-2454580.pdf?src-supplier=Digi-Key; ComponentLink4URL: https://datasheet.ciiva.com/2454/pyu-r-int-thick-7-2454581.pdf?src-supplier=Digi-Key; ComponentLink4Description: https://datasheet.ciiva.com/2454/pyu-r-int-thick-7-2454581.pdf?src-supplier=Digi-Key; Supplier Part Number 1: 603-RC0603FR-07154KL
footprint R 0603/1608
pins: 1, 2

## RC0603FR-07560KL
designator R?, comment 560K 1/10W 1% 0603
RES SMD 560K OHM 1% 1/10W 0603; Manufacturer: Yageo; Manufacturer Part Number: RC0603FR-07560KL; Resistance: 560kR; Temperature Coefficient: 100ppm/°C; Voltage Rating (DC): 50V; Power Rating: 100mW; Voltage Rating: 75V; Supplier 1: Mouser; RoHS: Yes; Stock 1: 203966; Pricing 1: 1 = 0,10000, 10 = 0,01800, 50 = 0,01800, 100 = 0,00600, 1000 = 0,00500, 10000 = 0,00300 (USD); Case/Package: 0603; Number of Pins: 2; Weight: 7.1E-05oz; Case Code (Imperial): 0603; Case Code (Metric): 1608; Min Operating Temperature: -55°C; Max Operating Temperature: 155°C; Tolerance: 1%; Composition: Thick Film; Packaging: Tape and Reel; Termination: SMD/SMT; Military Standard: Not; Working Voltage: 75V; Number of Terminations: 2; Length: 1.6mm; Height: 0.45mm; Width: 0.8mm; Depth: 0.8mm; REACH SVHC: Unknown; Lead Free: Lead Free; ComponentLink1URL: https://datasheet.ciiva.com/7746/443971-7746373.pdf?src-supplier=Element14; ComponentLink1Description: https://datasheet.ciiva.com/7746/443971-7746373.pdf?src-supplier=Element14; Supplier Part Number 1: 603-RC0603FR-07560KL
footprint R 0603/1608
pins: 1, 2

## RT0603DRD07165KL
designator R?, comment 165K 0.5% 1/10W 0603
RES SMD 165K OHM 0.5% 1/10W 0603; Manufacturer 1: Yageo; Manufacturer Part Number 1: RT0603DRD07165KL; Resistance: 165kR; Max Power Dissipation: 100mW; Temperature Coefficient: 25ppm/°C; Voltage Rating (DC): 50V; Supplier 1: Mouser; Stock 1: 7092; Pricing 1: 1=0,20000, 10=0,12200, 50=0,12200, 100=0,04000, 1000=0,02800, 10000=0,02000 (USD); RoHS: Yes; Case/Package: 0603; Case Code (Metric): 1608; Case Code (Imperial): 0603; Min Operating Temperature: -55°C; Max Operating Temperature: 155°C; Package Quantity: 1; Tolerance: 0.5%; Packaging: Tape and Reel; Composition: Thin Film; Number of Terminations: 2; Features: Moisture Resistant; Length: 0.063inch; Height: 0.022inch; Width: 0.031inch; Lead Free: Lead Free; ComponentLink1URL: http://www.yageo.com/documents/recent/PYu-RT_1-to-0.01_RoHS_L_8.pdf?src-supplier=Digi-Key; ComponentLink1Description: http://www.yageo.com/documents/recent/PYu-RT_1-to-0.01_RoHS_L_8.pdf?src-supplier=Digi-Key; ComponentLink2URL: http://www.yageo.com/documents/recent/PYu-RT_1-to-0.01_RoHS_L_9.pdf?src-supplier=Digi-Key; ComponentLink2Description: http://www.yageo.com/documents/recent/PYu-RT_1-to-0.01_RoHS_L_9.pdf?src-supplier=Digi-Key; Supplier Part Number 1: 603-RT0603DRD07165KL
footprint R 0603/1608
pins: 1, 2

## RT0603DRE0765K7L
designator R?, comment 65.7K 1/10W .5% 0603
Thin Film Resistors 1/10W 65.7K Ohms .5%; Manufacturer: Yageo; Manufacturer Part Number: RT0603DRE0765K7L; Resistance: 65.7kR; Tolerance: 0.5%; Supplier 1: Mouser; RoHS: No; Stock 1: 12131; Pricing 1: 1 = 0,13000, 10 = 0,07000, 50 = 0,07000, 100 = 0,02400, 1000 = 0,01700, 10000 = 0,01100 (USD); Case/Package: 0603; Supplier Part Number 1: 603-RT0603DRE0765K7L
footprint R 0603/1608
pins: 1, 2

## RT0603DRE0768KL
designator R?, comment 68K 1% 1/10W 0603
RES SMD 68K OHM 0.5% 1/10W 0603; Manufacturer 1: Yageo; Manufacturer Part Number 1: RT0603DRE0768KL; Resistance: 68kR; Voltage Rating: 75V; Power Rating: 100mW; Temperature Coefficient: 50ppm/°C; Voltage Rating (DC): 50V; Supplier 1: Mouser; Stock 1: 14768; Pricing 1: 1=0,13000, 10=0,07400, 50=0,07400, 100=0,02600, 1000=0,01800, 5000=0,01300, 10000=0,01100, 25000=0,01000 (USD); RoHS: Yes; Case/Package: 0603; Case Code (Imperial): 0603; Case Code (Metric): 1608; Min Operating Temperature: -55°C; Max Operating Temperature: 125°C; Tolerance: 0.5%; Packaging: Tape and Reel; Package Quantity: 5000; Composition: Thin Film; Number of Terminations: 2; Termination: SMD/SMT; Military Standard: Not; Max Power Dissipation: 100mW; Features: Moisture Resistant; Length: 0.063inch; Height: 0.022inch; Width: 0.031inch; Depth: 0.8mm; Lead Free: Lead Free; ComponentLink1URL: https://datasheet.ciiva.com/12703/pyu-rt-1-to-0-05-rohs-l-4-12703225.pdf?src-supplier=Mouser; ComponentLink1Description: https://datasheet.ciiva.com/12703/pyu-rt-1-to-0-05-rohs-l-4-12703225.pdf?src-supplier=Mouser; ComponentLink2URL: https://datasheet.ciiva.com/2566/pyu-rt-1-to-0-05-rohs-l-5-2566364.pdf?src-supplier=Digi-Key; ComponentLink2Description: https://datasheet.ciiva.com/2566/pyu-rt-1-to-0-05-rohs-l-5-2566364.pdf?src-supplier=Digi-Key; Supplier Part Number 1: 603-RT0603DRE0768KL
footprint R 0603/1608
pins: 1, 2

## RT0603FRE07510KL
designator R?, comment 510K 1% 1/10W 0603
Res Thin Film 0603 510K Ohm 1% 0.1W(1/10W) ±50ppm/C Molded SMD Paper T/R; Manufacturer 1: Yageo; Manufacturer Part Number 1: RT0603FRE07510KL; Resistance: 10kR; Temperature Coefficient: 50ppm/°C; Max Power Dissipation: 100mW; Supplier 1: Mouser; Stock 1: 8567; Pricing 1: 1=0,10000, 10=0,05000, 50=0,05000, 100=0,01800, 1000=0,01300, 5000=0,00900, 10000=0,00800, 50000=0,00700 (USD); RoHS: Yes; Case/Package: 0603; Contact Plating: Tin,Matte; Min Operating Temperature: -55°C; Max Operating Temperature: 125°C; Tolerance: 1%; Composition: Thin Film; Packaging: Tape and Reel; Number of Terminations: 2; Military Standard: Not; Features: Moisture Resistant; Length: 0.063inch; Height: 0.022inch; Width: 0.031inch; Depth: 0.8mm; Radiation Hardening: No; ComponentLink1URL: https://datasheet.ciiva.com/8891/pyu-rt-1-to-0-05-rohs-l-4-8891422.pdf?src-supplier=Avnet; ComponentLink1Description: https://datasheet.ciiva.com/8891/pyu-rt-1-to-0-05-rohs-l-4-8891422.pdf?src-supplier=Avnet; Supplier Part Number 1: 603-RT0603FRE07510KL
footprint R 0603/1608
pins: 1, 2

## RT0603FRE07820KL
designator R?, comment 820K 1% 1/10W 0603
RES SMD 820K OHM 1% 1/10W 0603; Manufacturer 1: Yageo; Manufacturer Part Number 1: RT0603FRE07820KL; Resistance: 820kR; Max Power Dissipation: 100mW; Temperature Coefficient: 50ppm/°C; Supplier 1: Mouser; Stock 1: 14098; Pricing 1: 1=0,10000, 10=0,05000, 50=0,05000, 100=0,01800, 1000=0,01300, 5000=0,00900, 10000=0,00800, 50000=0,00700 (USD); RoHS: Yes; Case/Package: 0603; Min Operating Temperature: -55°C; Max Operating Temperature: 155°C; Packaging: Tape and Reel; Composition: Thin Film; Number of Terminations: 2; Tolerance: 1%; Features: Moisture Resistant; Length: 0.063inch; Height: 0.022inch; Width: 0.031inch; ComponentLink1URL: http://www.yageo.com/documents/recent/PYu-RT_1-to-0.01_RoHS_L_8.pdf?src-supplier=Digi-Key; ComponentLink1Description: http://www.yageo.com/documents/recent/PYu-RT_1-to-0.01_RoHS_L_8.pdf?src-supplier=Digi-Key; Supplier Part Number 1: 603-RT0603FRE07820KL
footprint R 0603/1608
pins: 1, 2

## SN75LVDS83BDGGR
designator U?, comment DPI to LVDS  Supplier Part Number 1: 595-SN75LVDS83BDGGR
IC FLATLINK XMITTER 56TSSOP; Manufacturer: Texas Instruments; Manufacturer Part Number: SN75LVDS83BDGGR; Operating Supply Voltage: 3.3V; Number of Drivers: 28; Max Supply Voltage: 3.6V; Min Supply Voltage: 3V; Number of Receivers: 4; Max Power Dissipation: 1.111W; Power Dissipation: 1.73W; Supplier 1: Mouser; RoHS: Yes; Stock 1: 3204; Pricing 1: 1 = 6,24000, 10 = 5,65000, 50 = 5,22000, 100 = 4,67000, 1000 = 3,54000, 10000 = 3,41000 (USD); Case/Package: TSSOP; Number of Pins: 56; Weight: 0.008917oz; Min Operating Temperature: -10°C; Max Operating Temperature: 70°C; Packaging: Tape and Reel; Package Quantity: 2000; Number of Elements: 4; Radiation Hardening: No; Lead Free: Lead Free; REACH SVHC: No SVHC; ComponentLink1URL: https://datasheet.ciiva.com/15133/getdatasheetpartid-317665-15133411.pdf?src-supplier=Verical; ComponentLink1Description: https://datasheet.ciiva.com/15133/getdatasheetpartid-317665-15133411.pdf?src-supplier=Verical; ComponentLink2URL: https://datasheet.ciiva.com/41461/001187105-da-01-en-ic-flatlink-sn75lvds83bdggr-tssop-56-tid-41461811.pdf?src-supplier=Conrad; ComponentLink2Description: https://datasheet.ciiva.com/41461/001187105-da-01-en-ic-flatlink-sn75lvds83bdggr-tssop-56-tid-41461811.pdf?src-supplier=Conrad; ComponentLink3URL: https://datasheet.ciiva.com/26828/sn75lvds83bdggr-26828552.pdf?src-supplier=IIIC; ComponentLink3Description: https://datasheet.ciiva.com/26828/sn75lvds83bdggr-26828552.pdf?src-supplier=IIIC; ComponentLink4URL: https://datasheet.ciiva.com/3153/sn75lvds83b-3153176.pdf?src-supplier=Avnet; ComponentLink4Description: https://datasheet.ciiva.com/3153/sn75lvds83b-3153176.pdf?src-supplier=Avnet; ComponentLink5URL: https://datasheet.ciiva.com/1707/sn75lvds83b-1707595.pdf?src-supplier=Digi-Key; ComponentLink5Description: https://datasheet.ciiva.com/1707/sn75lvds83b-1707595.pdf?src-supplier=Digi-Key; ComponentLink6URL: https://datasheet.ciiva.com/1707/sn75lvds83b-1707596.pdf?src-supplier=Digi-Key; ComponentLink6Description: https://datasheet.ciiva.com/1707/sn75lvds83b-1707596.pdf?src-supplier=Digi-Key
footprint SOP50P810X120-56N
pins: 1 IOVCC_2, 2 D5, 3 D6, 4 D7, 5 GND_9, 6 D8, 7 D9, 8 D10, 9 VCC, 10 D11, 11 D12, 12 D13, 13 GND_2, 14 D14, 15 D15, 16 D16, 17 CLKSEL, 18 D17, 19 D18, 20 D19, 21 GND_6, 22 D20, 23 D21, 24 D22, 25 D23, 26 IOVCC, 27 D24, 28 D25, 29 GND_4, 30 D26, 31 CLKIN, 32 ~SHTDN, 33 GND, 34 PLLVCC, 35 GND_3, 36 GND_7, 37 Y3P, 38 Y3M, 39 CLKOUTP, 40 CLKOUTM, 41 Y2P, 42 Y2M, 43 GND_5, 44 LVDSVCC, 45 Y1P, 46 Y1M, 47 Y0P, 48 Y0M, 49 GND_10, 50 D27, 51 D0, 52 D1, 53 GND_8, 54 D2, 55 D3, 56 D4

## TC33X-2-504G
designator R?, comment Trimmer 500k
TRIMMER 500K OHM 0.1W SMD; Manufacturer: Bourns; Manufacturer Part Number: TC33X-2-504G; Resistance: 500kR; Power Rating: 100mW; Tolerance: 25%; Temperature Coefficient: 250ppm/°C; Supplier 1: Mouser; RoHS: Yes; Stock 1: 7122; Pricing 1: 1 = 0,26000, 10 = 0,20600, 50 = 0,20600, 100 = 0,18700, 1000 = 0,16200, 10000 = 0,12100 (USD); Mount: Surface Mount; Min Operating Temperature: -40°C; Max Operating Temperature: 120°C; Package Quantity: 9000; Packaging: Tape and Reel; Termination: SMD/SMT; Composition: Cermet; Max Power Dissipation: 100mW; Length: 0.15inch; Height: 0.047inch; Width: 0.118inch; Radiation Hardening: No; ComponentLink1URL: https://datasheet.ciiva.com/2159/tc33-2159840.pdf?src-supplier=Digi-Key; ComponentLink1Description: https://datasheet.ciiva.com/2159/tc33-2159840.pdf?src-supplier=Digi-Key; ComponentLink2URL: https://datasheet.ciiva.com/8699/tc33-8699733.pdf?src-supplier=Avnet; ComponentLink2Description: https://datasheet.ciiva.com/8699/tc33-8699733.pdf?src-supplier=Avnet; Supplier Part Number 1: 652-TC33X-2-504G
footprint TC33X-2_1
pins: 1, 2, 3
text: ->clockwise

## TPS61169DCKR
designator U?, comment BackLight Controller  Supplier Part Number 1: 595-TPS61169DCKR
IC LED DRVR RGLTR DIM 1.8A SC70; Manufacturer: Texas Instruments; Manufacturer Part Number: TPS61169DCKR; Max Input Voltage: 5.5V; Number of Outputs: 1; Output Current: 400mA; Min Input Voltage: 2.7V; Max Output Current: 2.4A; Switching Frequency: 1.2MHz; Max Output Voltage: 38V; Nominal Input Voltage (DC): 3.6V; Topology: Boost; Dimming: PWM; Output Type: Frequency; Supplier 1: Mouser; RoHS: Yes; Stock 1: 91313; Pricing 1: 1 = 0,90000, 10 = 0,77000, 50 = 0,77000, 100 = 0,58700, 1000 = 0,41000, 10000 = 0,35000 (USD); Mount: Surface Mount; Case/Package: SC; Number of Pins: 5; Weight: 0.000705oz; Contact Plating: Gold; Min Operating Temperature: -40°C; Max Operating Temperature: 85°C; Output Current per Channel: 1.8A; Package Quantity: 3000; Number of Channels: 1; Packaging: Tape and Reel; Max Supply Voltage: 5.5V; Frequency: 1.2MHz; Min Output Voltage: 2.7V; Output Voltage: 38V; Max Input Voltage (DC): 5.5V; Length: 2mm; Height: 1.1mm; Width: 1.25mm; REACH SVHC: No SVHC; Lead Free: Lead Free; ComponentLink1URL: http://www.ti.com/general/docs/lit/getliterature.tsp?genericPartNumber=TPS61169&&fileType=pdf&src-supplier=Element14; ComponentLink1Description: http://www.ti.com/general/docs/lit/getliterature.tsp?genericPartNumber=TPS61169&&fileType=pdf&src-supplier=Element14; ComponentLink2URL: http://www.ti.com/general/docs/lit/getliterature.tsp?genericPartNumber=TPS61169&amp;&amp;fileType=pdf&src-supplier=Farnell; ComponentLink2Description: http://www.ti.com/general/docs/lit/getliterature.tsp?genericPartNumber=TPS61169&amp;&amp;fileType=pdf&src-supplier=Farnell; ComponentLink3URL: http://www.ti.com/general/docs/lit/getliterature.tsp?genericPartNumber=TPS61169&&fileType=pdf&src-supplier=Avnet; ComponentLink3Description: http://www.ti.com/general/docs/lit/getliterature.tsp?genericPartNumber=TPS61169&&fileType=pdf&src-supplier=Avnet; ComponentLink4URL: http://www.ti.com/lit/ds/symlink/tps61169.pdf?src-supplier=Digi-Key; ComponentLink4Description: http://www.ti.com/lit/ds/symlink/tps61169.pdf?src-supplier=Digi-Key; ComponentLink5URL: http://www.ti.com/lit/gpn/tps61169?src-supplier=Mouser; ComponentLink5Description: http://www.ti.com/lit/gpn/tps61169?src-supplier=Mouser; ComponentLink6URL: http://www.ti.com/general/docs/lit/getliterature.tsp?genericPartNumber=TPS61169&&fileType=pdf&src-supplier=Avnet+Asia; ComponentLink6Description: http://www.ti.com/general/docs/lit/getliterature.tsp?genericPartNumber=TPS61169&&fileType=pdf&src-supplier=Avnet+Asia
footprint SOT65P210X110-5N
pins: 1 SW (out), 2 GND (power), 3 FB (in), 4 CTRL, 5 VIN (power)

## TPS65105RGER
designator U?, comment TFT LCD SUPPLY  Supplier Part Number 1: 595-TPS65105RGER
IC LCD SUPPLY TFT QUAD 24-VQFN; Manufacturer: Texas Instruments; Manufacturer Part Number: TPS65105RGER; Min Supply Voltage: 2.7V; Max Supply Voltage: 5.8V; Max Power Dissipation: 3.3W; Frequency: 2.1MHz; Number of Outputs: 4; Max Output Current: 20mA; Switching Frequency: 1.6MHz; Quiescent Current: 700uA; Output Voltage: 5V; Supplier 1: Mouser; RoHS: Yes; Stock 1: 1478; Pricing 1: 1 = 2,69000, 10 = 2,42000, 50 = 2,42000, 100 = 1,98000, 1000 = 1,42000, 10000 = 1,30000 (USD); Case/Package: VQFN; Number of Pins: 24; Weight: 0.001524oz; Min Operating Temperature: -40°C; Max Operating Temperature: 85°C; Packaging: Tape and Reel; Package Quantity: 1; Max Input Voltage: 5.8V; Min Input Voltage: 2.7V; Power Dissipation: 3.3W; Max Frequency: 2.1MHz; Output Current: 20mA; Nominal Supply Current: 700uA; Input Current: 700uA; Radiation Hardening: No; Lead Free: Lead Free; ComponentLink1URL: https://datasheet.ciiva.com/15135/getdatasheetpartid-320626-15135152.pdf?src-supplier=Verical; ComponentLink1Description: https://datasheet.ciiva.com/15135/getdatasheetpartid-320626-15135152.pdf?src-supplier=Verical; ComponentLink2URL: https://datasheet.ciiva.com/3058/tps65101-3058962.pdf?src-supplier=Avnet; ComponentLink2Description: https://datasheet.ciiva.com/3058/tps65101-3058962.pdf?src-supplier=Avnet; ComponentLink3URL: https://datasheet.ciiva.com/2077/tps65100-2077591.pdf?src-supplier=Digi-Key; ComponentLink3Description: https://datasheet.ciiva.com/2077/tps65100-2077591.pdf?src-supplier=Digi-Key; ComponentLink4URL: https://datasheet.ciiva.com/2077/tps65100-2077592.pdf?src-supplier=Digi-Key; ComponentLink4Description: https://datasheet.ciiva.com/2077/tps65100-2077592.pdf?src-supplier=Digi-Key; ComponentLink5URL: https://datasheet.ciiva.com/2077/tps65100-2077593.pdf?src-supplier=Digi-Key; ComponentLink5Description: https://datasheet.ciiva.com/2077/tps65100-2077593.pdf?src-supplier=Digi-Key
footprint VQFN24 3.8x3.8
pins: 1 COMP, 2 ENR, 3 EN, 4 FB1, 5 FB4, 6 BASE, 7 VIN, 8 SW, 9 SW, 10 PGND, 11 PGND, 12 SUP, 13 VCOM, 14 VCOMIN, 15 FB3, 16 OUT3, 17 C2+, 18 C2-/MODE, 19 C1+, 20 C1-, 21 DRV, 22 GND, 23 REF, 24 FB2, 25 PAD